# EAGLE library part AD7302 (library SparkFun)
AD7302
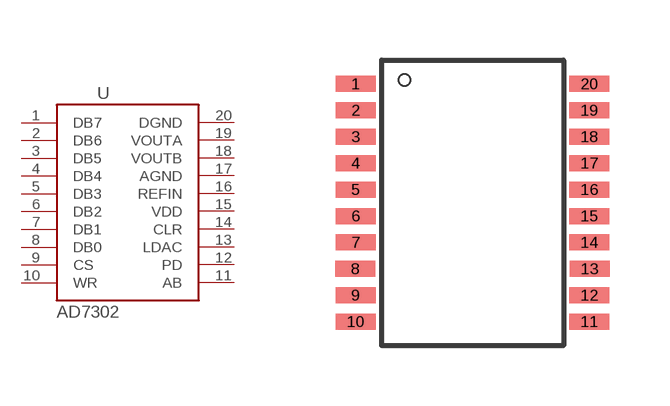
[diagram p214: symbol with the pads of TSSOP20; footprint TSSOP20]

Designator prefix -

## AD7302SMD  [TSSOP20]
1  DB7
2  DB6
3  DB5
4  DB4
5  DB3
6  DB2
7  DB1
8  DB0
9  CS
10  WR
11  AB
12  PD
13  LDAC
14  CLR
15  VDD
16  REFIN
17  AGND
18  VOUTB
19  VOUTA
20  DGND

## Footprint TSSOP20 (pad centres in mm)
smd 1 x 0.4: 1 -2.937,2.693; 2 -2.937,2.032; 3 -2.937,1.372; 4 -2.937,0.712; 5 -2.937,0.051; 6 -2.937,-0.609; 7 -2.937,-1.27; 8 -2.943,-1.93; 9 -2.937,-2.59; 10 -2.937,-3.251; 11 2.905,-3.251; 12 2.905,-2.59; 13 2.911,-1.93; 14 2.905,-1.27; 15 2.905,-0.609; 16 2.905,0.051; 17 2.905,0.712; 18 2.905,1.372; 19 2.905,2.032; 20 2.905,2.693